# Altium footprint library SQ-1.PcbLib: 34 footprints (part 2 of 3)
Each footprint in its own frame and in the unit in brackets; x right, y up, seen from the top. Pads: shape width x height; smd on the part's side, far side on the other; paste and mask are expansions set on the pad; w line width, h text height; cw(c..) or ccw(c..) is an arc to the next point about the centre after c.
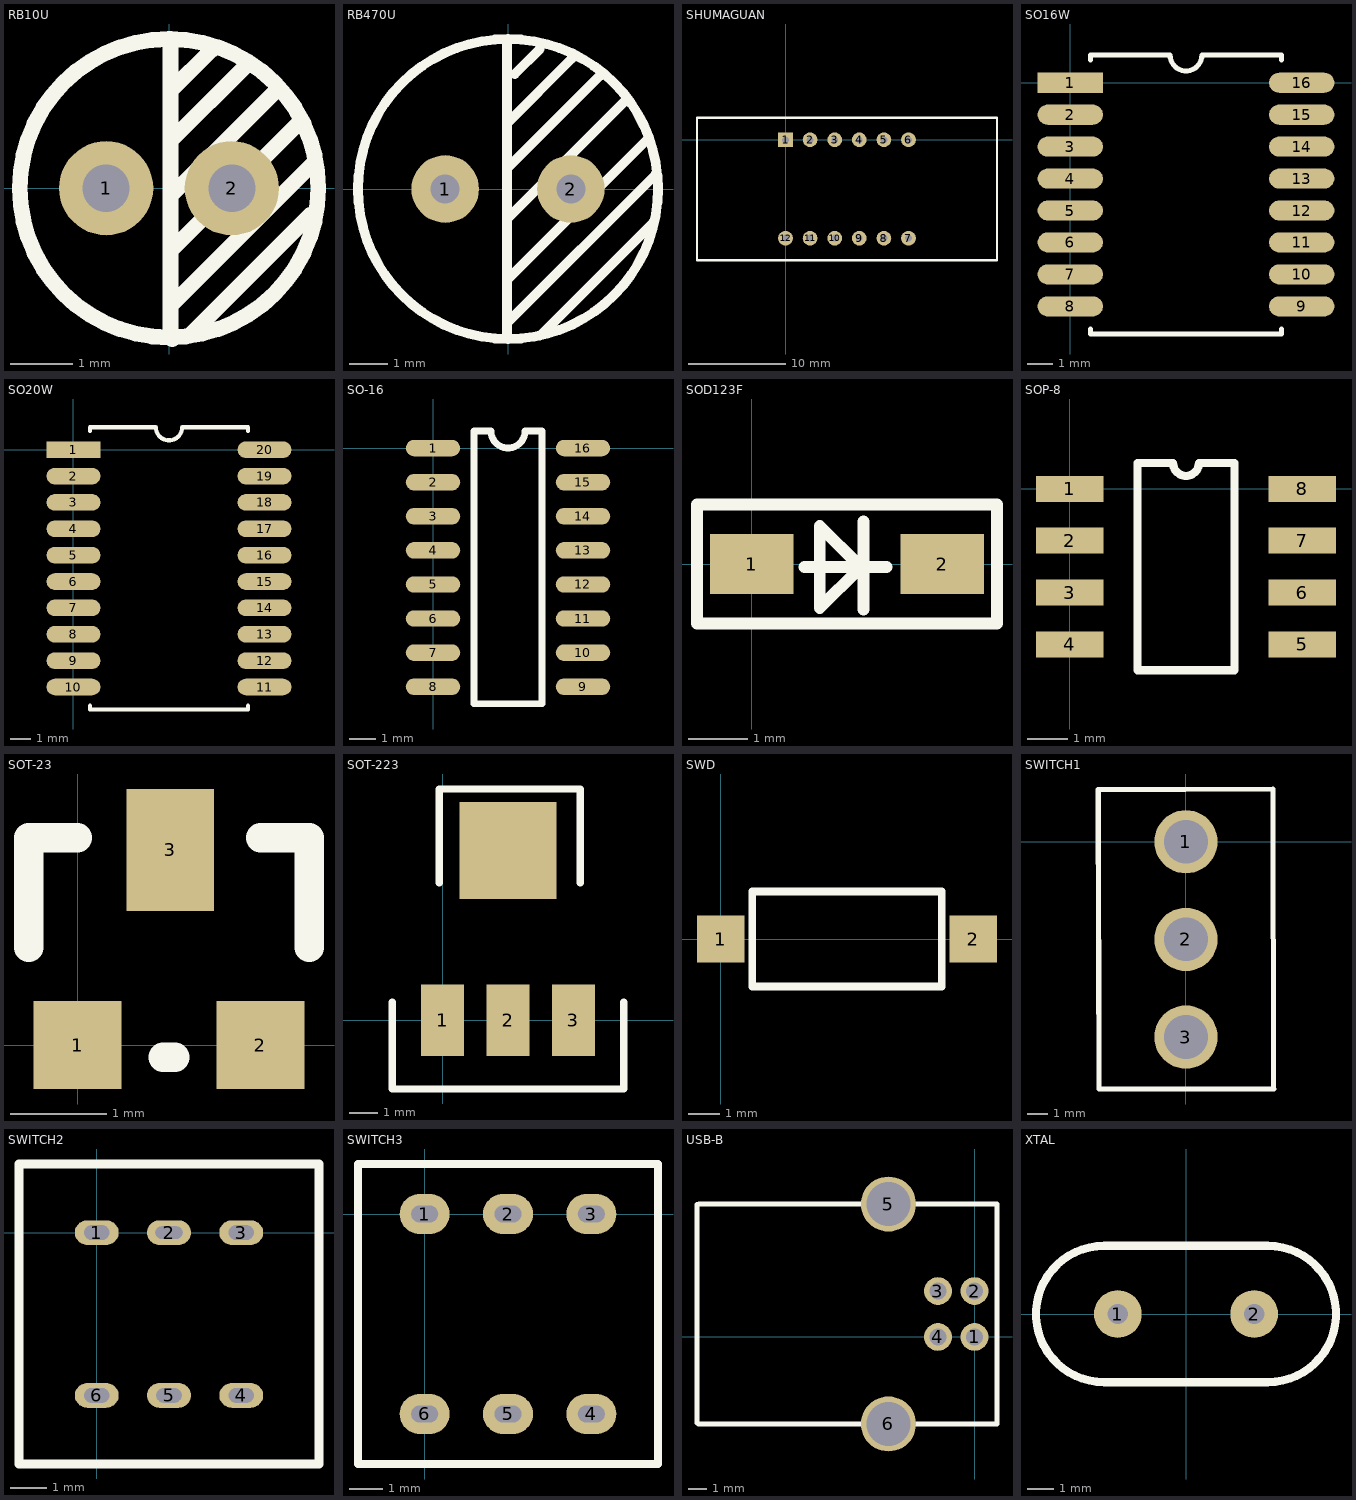
[diagram p1: the footprints below, top view; thin cyan lines are the x and y axes]

## RB10U [mil]
pads (2):
  round 60 hole 30: 1(-40,0) 2(40,0)
Top Overlay:
  circle w10: c0,0 r95
  lines w10: 1,-75 92,16 ; 1,-40 84,43 84,44 ; 1,-5 69,63 ; 1,30 50,79 ; 1,62 27,88 ; 1,95 1,-95 2,-96 ; 13,-94 90,-17

## RB470U [mil]
pads (2):
  round 70 hole 30: 1(-65,0) 2(65,0)
Top Overlay:
  circle w10: c0,0 r155.32
  lines w10: -1,-153 -1,155 ; -1,-139 153,15 153,16 ; -1,-94 144,51 ; -1,-31 122,92 ; -1,21 96,118 97,118 ; -1,68 66,135 66,138 ; 7,119 33,145 ; 33,-152 150,-35

## SHUMAGUAN [mil]
pads (12):
  rect 60x60 hole 28: 1(0,0)
  round 60 hole 28: 2(100,0) 3(200,0) 4(300,0) 5(400,0) 6(500,0) 7(500,-400) 8(400,-400) 9(300,-400) 10(200,-400) 11(100,-400) 12(0,-400)
Top Overlay:
  lines w10: -360,-490 860,-490 860,90 -360,90 -360,-490

## SO16W [mm]
pads (16):
  rect 2.6x0.8 smd: 1(0,0)
  oval 2.6x0.8 smd: 2(0,-1.27) 3(0,-2.54) 4(0,-3.81) 5(0,-5.08) 6(0,-6.35) 7(0,-7.62) 8(0,-8.89) 9(9.2,-8.89) 10(9.2,-7.62) 11(9.2,-6.35) 12(9.2,-5.08) 13(9.2,-3.81) 14(9.2,-2.54) 15(9.2,-1.27) 16(9.2,0)
Top Overlay:
  lines w0.2: 0.8,-9.79 0.8,-9.995 8.4,-9.995 8.4,-9.79 ; 0.8,0.9 0.8,1.105 3.965,1.105 ccw(c4.6,1.105) 5.235,1.105 8.4,1.105 8.4,0.9

## SO20W [mm]
pads (20):
  rect 2.6x0.8 smd: 1(0,0)
  oval 2.6x0.8 smd: 2(0,-1.27) 3(0,-2.54) 4(0,-3.81) 5(0,-5.08) 6(0,-6.35) 7(0,-7.62) 8(0,-8.89) 9(0,-10.16) 10(0,-11.43) 11(9.2,-11.43) 12(9.2,-10.16) 13(9.2,-8.89) 14(9.2,-7.62) 15(9.2,-6.35) 16(9.2,-5.08) 17(9.2,-3.81) 18(9.2,-2.54) 19(9.2,-1.27) 20(9.2,0)
Top Overlay:
  lines w0.2: 0.8,-12.33 0.8,-12.515 8.4,-12.515 8.4,-12.33 ; 0.8,0.9 0.8,1.085 3.965,1.085 ccw(c4.6,1.085) 5.235,1.085 8.4,1.085 8.4,0.9

## SO-16 [mil]
pads (16):
  oval 80x24 smd: 1(0,0) 2(0,-50) 3(0,-100) 4(0,-150) 5(0,-200) 6(0,-250) 7(0,-300) 8(0,-350) 9(220,-350) 10(220,-300) 11(220,-250) 12(220,-200) 13(220,-150) 14(220,-100) 15(220,-50) 16(220,0)
Top Overlay:
  lines w10: 60,-375 160,-375 160,25 135,25 cw(c110,25) 85,25 60,25 60,-375

## SOD123F [mm]
pads (2):
  rect 1.4x1 smd: 1(0,0) 2(3.2,0)
Top Overlay:
  lines w0.2: 0.889,-0.051 2.261,-0.051 ; 1.88,-0.762 1.88,0.711 ; -0.914,-1 -0.914,1 4.115,1 4.115,-1 -0.914,-1 ; 1.143,-0.737 1.143,0.635 1.803,-0.025 1.803,-0.076 1.143,-0.737

## SOP-8 [mil]
pads (8):
  rect 65x25 smd: 1(0,0) 2(0,-50) 3(0,-100) 4(0,-150) 5(224.41,-150) 6(224.41,-100) 7(224.41,-50) 8(224.41,0)
Top Overlay:
  lines w7.87: 65.37,-175 159.03,-175 159.03,25 124.7,25 cw(c112.2,25) 99.7,25 65.37,25 65.37,-175

## SOT-23 [mil]
pads (3):
  rect 36x36 smd: 1(0,0) 2(75,0)
  rect 36x50 smd: 3(38,80)
Top Overlay:
  lines w12: -20,40 -20,85 0,85 ; 35,-5 40,-5 ; 75,85 95,85 95,40

## SOT-223 [mm]
pads (4):
  rect 1.524x2.5 smd: 1(0,0) 2(2.3,0) 3(4.6,0)
  rect 3.4x3.4 smd: ""(2.3,5.969)
Top Overlay:
  lines w0.254: -1.764,0.635 -1.764,-2.413 6.364,-2.413 6.364,0.635 ; -0.113,4.826 -0.113,8.128 4.84,8.128 4.84,4.826

## SWD [mil]
pads (2):
  rect 60x60 smd: 1(-0.4,0.5) 2(319.6,0.5)
Top Overlay:
  lines w10: 39.6,-59.5 279.6,-59.5 279.6,50.5 279.6,60.5 269.6,60.5 39.6,60.5 39.6,-59.5

## SWITCH1 [mil]
pads (3):
  round 120 hole 82.68: 1(0,0) 2(0,-185.04) 3(0,-370.08)
Top Overlay:
  lines w10: -166.04,98.43 -165,-468.5 166.16,-468.5 ; -166.01,98.43 165,100 166.03,-468.5

## SWITCH2 [mil]
pads (6):
  oval 48x27 hole 15.75 slot 27.56 at 0 deg: 1(0,0) 3(158,0) 4(158,-178) 5(79,-178) 6(0,-178)
  oval 48x27 hole 13.39 slot 29.96 at 0 deg: 2(79,0)
Top Overlay:
  lines w10: -85,-253 -85,75 243,75 243,-253 -85,-253

## SWITCH3 [mm]
pads (6):
  oval 1.5x1.2 hole 0.5 slot 0.8 at 0 deg: 1(0,0) 2(2.5,0) 3(5,0) 4(5,-6) 5(2.5,-6) 6(0,-6)
Top Overlay:
  lines w0.254: -2,-7.5 -2,1.5 7,1.5 7,-7.5 -2,-7.5

## USB-B [mm]
pads (6):
  round 1.524 hole 0.92: 1(0,0) 2(0,2.5) 3(-2,2.5) 4(-2,0)
  round 3 hole 2.4: 5(-4.7,7.25) 6(-4.7,-4.75)
Top Overlay:
  lines w0.254: -15.15,-4.7 -15.15,-1.75 -15.15,4.25 -15.15,7.225 -15.05,7.225 -15.05,7.25 1.225,7.25 1.225,-4.75 -15.075,-4.75 -15.075,-4.7 -15.15,-4.7

## XTAL [mil]
pads (2):
  round 70 hole 30: 1(-100,0) 2(100,0)
Top Overlay:
  lines w12: -120,-100 cw(c-120,0) -120,100 120,100 cw(c120,0) 120,-100 -120,-100